# Altium schematic symbol library Res_Vishay_CRCW06032K20FKEAC_eec.SchLib: 1 symbol
Pins are listed as number, name and electrical type; pins without a type are passive.

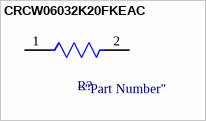
[diagram p0: symbol CRCW06032K20FKEAC]

## CRCW06032K20FKEAC
designator R?  (value not drawn)
pins: 1, 2